# Altium footprint library MEMORIAS.PcbLib: 1 footprints
Each footprint in its own frame and in the unit in brackets; x right, y up, seen from the top. Pads: shape width x height; smd on the part's side, far side on the other; paste and mask are expansions set on the pad; w line width, h text height; cw(c..) or ccw(c..) is an arc to the next point about the centre after c.
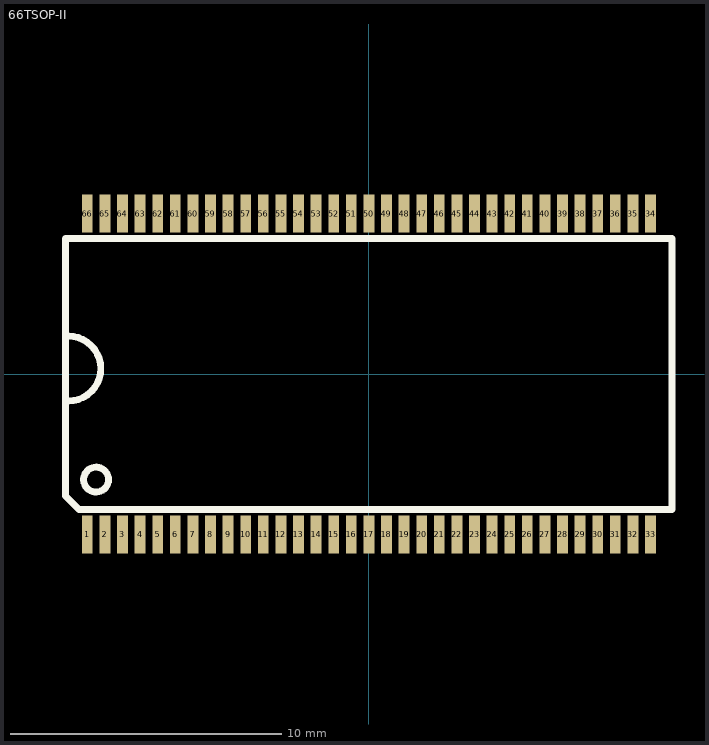
[diagram p0: the footprint, top view; thin cyan lines are the x and y axes]

## 66TSOP-II [mm] "66-TSSOP (0.400\", 10.16mm Width)"
height 1.2
pads (66):
  rect 0.4x1.4 smd: 1(-10.4,-5.925) 2(-9.75,-5.925) 3(-9.1,-5.925) 4(-8.45,-5.925) 5(-7.8,-5.925) 6(-7.15,-5.925) 7(-6.5,-5.925) 8(-5.85,-5.925) 9(-5.2,-5.925) 10(-4.55,-5.925) 11(-3.9,-5.925) 12(-3.25,-5.925) 13(-2.6,-5.925) 14(-1.95,-5.925) 15(-1.3,-5.925) 16(-0.65,-5.925) 17(0,-5.925) 18(0.65,-5.925) 19(1.3,-5.925) 20(1.95,-5.925) 21(2.6,-5.925) 22(3.25,-5.925) 23(3.9,-5.925) 24(4.55,-5.925) 25(5.2,-5.925) 26(5.85,-5.925) 27(6.5,-5.925) 28(7.15,-5.925) 29(7.8,-5.925) 30(8.45,-5.925) 31(9.1,-5.925) 32(9.75,-5.925) 33(10.4,-5.925) 34(10.4,5.925) 35(9.75,5.925) 36(9.1,5.925) 37(8.45,5.925) 38(7.8,5.925) 39(7.15,5.925) 40(6.5,5.925) 41(5.85,5.925) 42(5.2,5.925) 43(4.55,5.925) 44(3.9,5.925) 45(3.25,5.925) 46(2.6,5.925) 47(1.95,5.925) 48(1.3,5.925) 49(0.65,5.925) 50(0,5.925) 51(-0.65,5.925) 52(-1.3,5.925) 53(-1.95,5.925) 54(-2.6,5.925) 55(-3.25,5.925) 56(-3.9,5.925) 57(-4.55,5.925) 58(-5.2,5.925) 59(-5.85,5.925) 60(-6.5,5.925) 61(-7.15,5.925) 62(-7.8,5.925) 63(-8.45,5.925) 64(-9.1,5.925) 65(-9.75,5.925) 66(-10.4,5.925)
Top Overlay:
  circle w0.254: c-10.075,-3.9 r0.459
  lines w0.254: -11.1,-1 ccw(c-11.1,0.2) -11.1,1.4 ; -11.2,-4.5 -10.7,-5 11.2,-5 11.2,5 -11.2,5 -11.2,-4.5
3D body "User Library-tsopii66pin.STEP": height 1.15, standoff -0.05, extent -11.11,-5.88 11.11,5.88